# EAGLE library part TDA8703 (library Philips-semiconductors2)
The TDA8703 is an 8-bit high-speed Analog-to-Digital Converter (ADC) for video and other applications. It converts the analog input signal into 8-bit binary-coded digital words at a maximum sampling rate of 40 MHz. All digital inputs and outputs are TTL compatible, although a low-level AC clock input signal is allowed
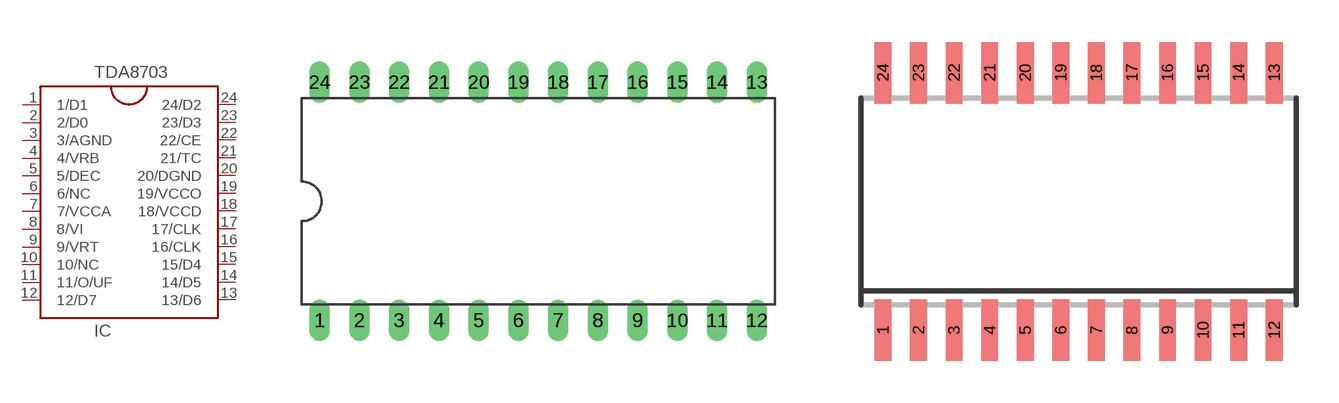
[diagram p74: symbol with the pads of DIL24-6; footprints DIL24-6, SO24]

Designator prefix IC

## TDA8703TDA8703  [DIL24-6]
1  1/D1  out
2  2/D0  out
3  3/AGND  pwr
4  4/VRB
5  5/DEC  in
6  6/NC  nc
7  7/VCCA  pwr
8  8/VI  in
9  9/VRT
10  10/NC  nc
11  11/O/UF  out
12  12/D7  out
13  13/D6  out
14  14/D5  out
15  15/D4  out
16  16/CLK  in
17  17/CLK  in
18  18/VCCD  pwr
19  19/VCCO  pwr
20  20/DGND  pwr
21  21/TC  in
22  22/CE  in
23  23/D3  out
24  24/D2  out

## TDA8703TDA8703T  [SO24]
Pads as for DIL24-6

## Footprint DIL24-6 (pad centres in mm)
Dual In Line 24 leads (600 mil) SOT101-1
drill 0.813 long: 1 -13.97,-7.62; 2 -11.43,-7.62; 3 -8.89,-7.62; 4 -6.35,-7.62; 5 -3.81,-7.62; 6 -1.27,-7.62; 7 1.27,-7.62; 8 3.81,-7.62; 9 6.35,-7.62; 10 8.89,-7.62; 11 11.43,-7.62; 12 13.97,-7.62; 13 13.97,7.62; 14 11.43,7.62; 15 8.89,7.62; 16 6.35,7.62; 17 3.81,7.62; 18 1.27,7.62; 19 -1.27,7.62; 20 -3.81,7.62; 21 -6.35,7.62; 22 -8.89,7.62; 23 -11.43,7.62; 24 -13.97,7.62

## Footprint SO24 (pad centres in mm)
Small Outline Package SOT137-1 7.5 x 15.74 mm
smd 0.6 x 2.2: 1 -6.985,-4.6; 2 -5.715,-4.6; 3 -4.445,-4.6; 4 -3.175,-4.6; 5 -1.905,-4.6; 6 -0.635,-4.6; 7 0.635,-4.6; 8 1.905,-4.6; 9 3.175,-4.6; 10 4.445,-4.6; 11 5.715,-4.6; 12 6.985,-4.6; 13 6.985,4.6; 14 5.715,4.6; 15 4.445,4.6; 16 3.175,4.6; 17 1.905,4.6; 18 0.635,4.6; 19 -0.635,4.6; 20 -1.905,4.6; 21 -3.175,4.6; 22 -4.445,4.6; 23 -5.715,4.6; 24 -6.985,4.6